# EAGLE library part MAX3378 (library MAÑE)
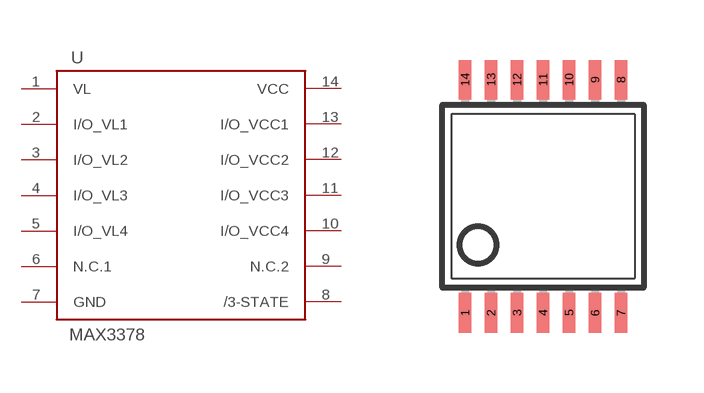
[diagram p26: symbol with the pads of TSSOP14; footprint TSSOP14]

Designator prefix -

## MAX3378  [TSSOP14]
1  VL
2  I/O_VL1
3  I/O_VL2
4  I/O_VL3
5  I/O_VL4
6  N.C.1
7  GND
8  /3-STATE
9  N.C.2
10  I/O_VCC4
11  I/O_VCC3
12  I/O_VCC2
13  I/O_VCC1
14  VCC

## Footprint TSSOP14 (pad centres in mm)
smd 0.305 x 0.991: 1 -1.95,-2.918; 2 -1.3,-2.918; 3 -0.65,-2.918; 4 0,-2.918; 5 0.65,-2.918; 6 1.3,-2.918; 7 1.95,-2.918; 8 1.95,2.918; 9 1.3,2.918; 10 0.65,2.918; 11 0,2.918; 12 -0.65,2.918; 13 -1.3,2.918; 14 -1.95,2.918